# Altium footprint library DO-214AC.PcbLib: 1 footprints
Each footprint in its own frame and in the unit in brackets; x right, y up, seen from the top. Pads: shape width x height; smd on the part's side, far side on the other; paste and mask are expansions set on the pad; w line width, h text height; cw(c..) or ccw(c..) is an arc to the next point about the centre after c.
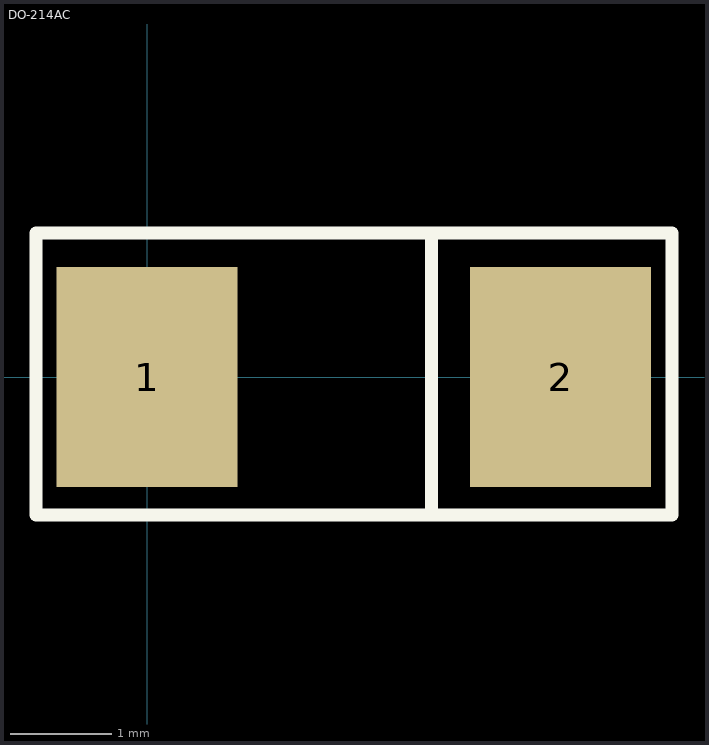
[diagram p0: the footprint, top view; thin cyan lines are the x and y axes]

## DO-214AC [mm] "DO-214AC"
height 1.8
pads (2):
  rect 1.78x2.16 smd: 1(0,0) 2(4.06,0)
Top Overlay:
  lines w0.127: 2.794,-1.356 2.794,1.417 ; -1.092,-1.356 -1.092,1.417 5.156,1.417 5.156,-1.356 -1.092,-1.356
3D body "User Library-DO-214AC SMA.STEP": height 1, standoff -1.4, extent -0.568,-1.279 4.632,1.32